# EAGLE library part WIFI_AMW037 (library Ilya_Teach)
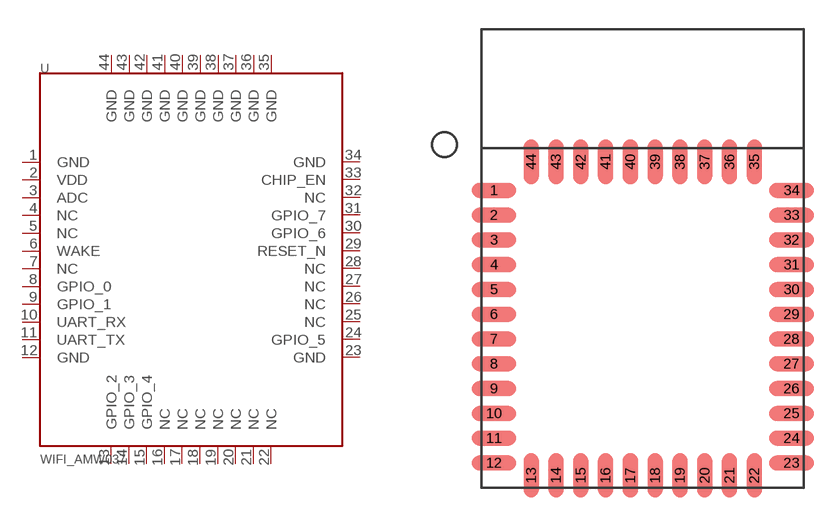
[diagram p17: symbol with the pads of AMW037; footprint AMW037]

Designator prefix -

## WIFI_AMW037  [AMW037]
1  GND
2  VDD
3  ADC
4  NC
5  NC
6  WAKE
7  NC
8  GPIO_0
9  GPIO_1
10  UART_RX
11  UART_TX
12  GND
13  GPIO_2
14  GPIO_3
15  GPIO_4
16  NC
17  NC
18  NC
19  NC
20  NC
21  NC
22  NC
23  GND
24  GPIO_5
25  NC
26  NC
27  NC
28  NC
29  RESET_N
30  GPIO_6
31  GPIO_7
32  NC
33  CHIP_EN
34  GND
35  GND
36  GND
37  GND
38  GND
39  GND
40  GND
41  GND
42  GND
43  GND
44  GND

## Footprint AMW037 (pad centres in mm)
smd 2.286 x 0.762: 1 -7.62,6.54; 2 -7.62,5.271; 3 -7.62,4; 4 -7.62,2.731; 5 -7.62,1.46; 6 -7.62,0.191; 7 -7.62,-1.079; 8 -7.62,-2.349; 9 -7.62,-3.619; 10 -7.62,-4.889; 11 -7.62,-6.16; 12 -7.62,-7.429; 23 7.62,-7.429; 24 7.62,-6.16; 25 7.62,-4.889; 26 7.62,-3.619; 27 7.62,-2.349; 28 7.62,-1.079; 29 7.62,0.191; 30 7.62,1.46; 31 7.62,2.731; 32 7.62,4; 33 7.62,5.271; 34 7.62,6.54
smd 0.762 x 2.286: 13 -5.715,-8.065; 14 -4.445,-8.065; 15 -3.175,-8.065; 16 -1.905,-8.065; 17 -0.635,-8.065; 18 0.635,-8.065; 19 1.905,-8.065; 20 3.175,-8.065; 21 4.445,-8.065; 22 5.715,-8.065; 35 5.715,8.001; 36 4.445,8.001; 37 3.175,8.001; 38 1.905,8.001; 39 0.635,8.001; 40 -0.635,8.001; 41 -1.905,8.001; 42 -3.175,8.001; 43 -4.445,8.001; 44 -5.715,8.001